# EAGLE library part MIC2253 (library MIC2253_MLF12)
MIC2253 - 3.5A, 1 MHz High Efficiency, Variable Voltage Inuput Boost Regulator with Over Voltage Protection and Soft-Start, Micrel 02-13-2013 - troneeee@gmail.com
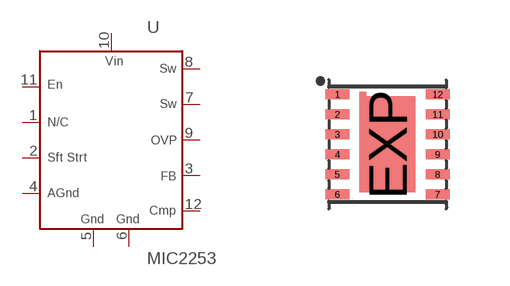
[diagram p0: symbol with the pads of MLF12_3.0MM_X_3.0MM; footprint MLF12_3.0MM_X_3.0MM]

Designator prefix U

## MIC2253  [MLF12_3.0MM_X_3.0MM]
1  NC  nc
2  SS  pas
3  FB  pas
4  AGND  pas
5  GND  pas
6  GND  pas
7  SW  oc
8  SW  oc
9  OVP  pas
10  VIN  pas
11  EN  in
12  CMP  pas

## Footprint MLF12_3.0MM_X_3.0MM (pad centres in mm)
MLF 12 (ML) 3.0 x 3.0 mm, 12-Pin Package Source: Source: http://www.micrel.com/_PDF/mic2253.pdf
smd 0.6 x 0.25: 1 -1.244,1.291; 2 -1.242,0.79; 3 -1.242,0.29; 4 -1.242,-0.21; 5 -1.242,-0.71; 6 -1.242,-1.21; 7 1.265,-1.211; 8 1.265,-0.711; 9 1.265,-0.211; 10 1.265,0.289; 11 1.265,0.789; 12 1.266,1.29
smd 1.4 x 2.4: EXP 0.01,0.038